# EAGLE library part 1017505 (library 1017505)
Phoenix Contact TDPT Series 5.08mm Pitch, PCB Terminal Block, PCB Mount, 4 Way Source: Datasheet <https://www.phoenixcontact.com/online/portal/gb/?uri=pxc-oc-itemdetail:pid=1017505&library=gben&pcck=P-11-01-05&tab=1&selectedCategory=ALL>
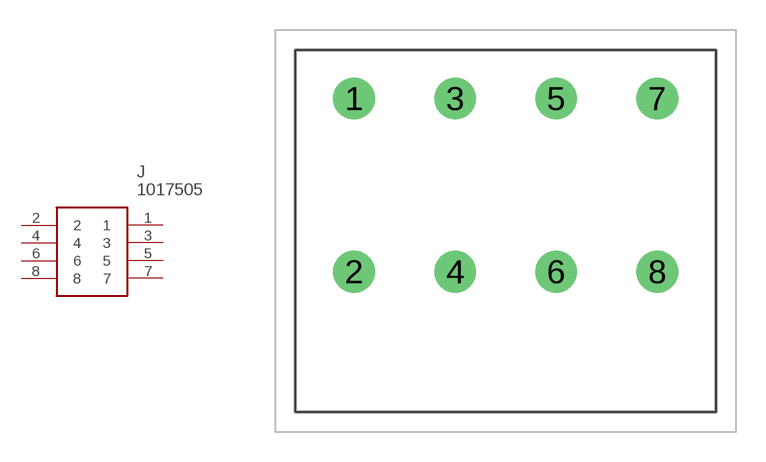
[diagram p0: symbol with the pads of 1017505; footprint 1017505]

Designator prefix J

## 1017505 (Arrow_Part_Number: 1017505; Arrow_Price-Stock: https://www.arrow.com/en/products/1017505/phoenix-contact; Description: Phoenix Contact TDPT Series 5.08mm Pitch, PCB Terminal Block, PCB Mount, 4 Way; Height: 19.2mm; Manufacturer_Name: Phoenix Contact; Manufacturer_Part_Number: 1017505; Mouser_Part_Number: 651-1017505; Mouser_Price-Stock: https://www.mouser.co.uk/ProductDetail/Phoenix-Contact/1017505?qs=F5EMLAvA7IDSv5uM7A6HhA%3D%3D)  [1017505]
1  1
2  2
3  3
4  4
5  5
6  6
7  7
8  8

## Footprint 1017505 (pad centres in mm)
1017505-1
drill 1.4 pad 2.1: 1 0,0; 2 0,-8.7; 3 5.08,0; 4 5.08,-8.7; 5 10.16,0; 6 10.16,-8.7; 7 15.24,0; 8 15.24,-8.7